# EAGLE library part MC14532BCPG (library ON Semiconductor_By_element14_Batch_1)
8-Bit Priority Encoder
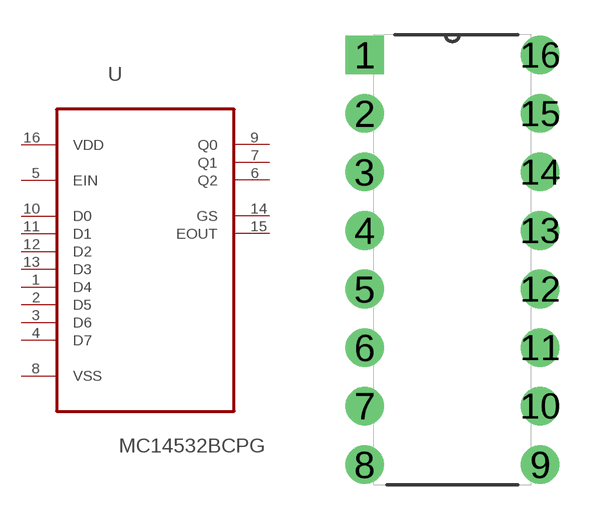
[diagram p288: symbol with the pads of DIP254P762X444-16; footprint DIP254P762X444-16]

Designator prefix U

## MC14532BCPG (MPN: MC14532BCPG; OC_FARNELL: 9665641; OC_NEWARK: 45J1118; P1I: o; PACKAGE: PDIP-16; SUPPLIER: On semiconductors)  [DIP254P762X444-16]
1  D4  in
2  D5  in
3  D6  in
4  D7  in
5  EIN  in
6  Q2  out
7  Q1  out
8  VSS  pwr
9  Q0  out
10  D0  in
11  D1  in
12  D2  in
13  D3  in
14  GS  out
15  EOUT  out
16  VDD  pwr

## Footprint DIP254P762X444-16 (pad centres in mm)
drill 1.118 square: 1 -7.62,17.78
drill 1.118: 2 -7.62,15.24; 3 -7.62,12.7; 4 -7.62,10.16; 5 -7.62,7.62; 6 -7.62,5.08; 7 -7.62,2.54; 8 -7.62,0; 9 0,0; 10 0,2.54; 11 0,5.08; 12 0,7.62; 13 0,10.16; 14 0,12.7; 15 0,15.24; 16 0,17.78